# Altium footprint library MAX11192.PcbLib: 3 footprints
Each footprint in its own frame and in the unit in brackets; x right, y up, seen from the top. Pads: shape width x height; smd on the part's side, far side on the other; paste and mask are expansions set on the pad; w line width, h text height; cw(c..) or ccw(c..) is an arc to the next point about the centre after c.
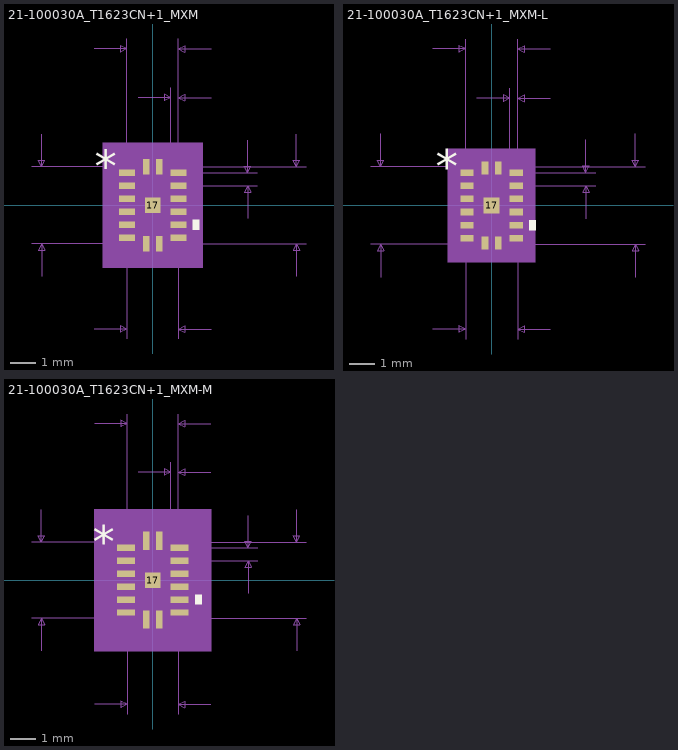
[diagram p0: the footprints below, top view; thin cyan lines are the x and y axes]

## 21-100030A_T1623CN+1_MXM [mil]
pads (17):
  rect 24x10 smd paste+0 mask+0: 1(-39.5,50) 2(-39.5,30) 3(-39.5,10) 4(-39.5,-10) 5(-39.5,-30) 6(-39.5,-50) 9(39.5,-50) 10(39.5,-30) 11(39.5,-10) 12(39.5,10) 13(39.5,30) 14(39.5,50)
  rect 10x24 smd paste+0 mask+0: 7(-10,-59) 8(10,-59) 15(10,59) 16(-10,59)
  rect 24x24 smd paste+0 mask+0: 17(0,0)
Top Overlay:
  region: 61.5,-22.5 71.5,-22.5 71.5,-37.5 61.5,-37.5
  text "*" at -89,35 h50
Mechanical 5:
  region: 76.5,-96 -76.5,-96 -76.5,96 76.5,96
Mechanical 7:
  lines w1: -185.5,-59 39.5,-59 ; -185.5,59 39.5,59 39.5,-205 ; -170.5,-109 -170.5,-59 ; -170.5,109 -170.5,59 ; -89.5,-190 -39.5,-190 ; -89.5,240 -39.5,240 ; -39.5,-205 -39.5,59 ; -39.5,50 -39.5,255 ; -22.5,165 27.5,165 ; 10,-59 235.5,-59 ; 10,59 235.5,59 ; 27.5,50 27.5,180 ; 39.5,30 160.5,30 ; 39.5,180 39.5,50 ; 39.5,255 39.5,50 ; 89.5,-190 39.5,-190 ; 89.5,165 39.5,165 ; 89.5,240 39.5,240 ; 145.5,-20 145.5,30 ; 145.5,100 145.5,50 ; 160.5,50 39.5,50 ; 220.5,-109 220.5,-59 ; 220.5,109 220.5,59 ; -170.5,-59 -175.5,-69 -165.5,-69 -170.5,-59 ; -170.5,59 -175.5,69 -165.5,69 -170.5,59 ; -39.5,-190 -49.5,-185 -49.5,-195 -39.5,-190 ; -39.5,240 -49.5,245 -49.5,235 -39.5,240 ; 27.5,165 17.5,170 17.5,160 27.5,165 ; 39.5,-190 49.5,-185 49.5,-195 39.5,-190 ; 39.5,165 49.5,170 49.5,160 39.5,165 ; 39.5,240 49.5,245 49.5,235 39.5,240 ; 145.5,30 140.5,20 150.5,20 145.5,30 ; 145.5,50 140.5,60 150.5,60 145.5,50 ; 220.5,-59 215.5,-69 225.5,-69 220.5,-59 ; 220.5,59 215.5,69 225.5,69 220.5,59
  text "Default Padstyle: RX10Y24D0T" at -350,-381 h50
  text "Heat Tab Padstyle: RX24Y24D0T" at -362.5,-441 h50
  text "Alt 1 Padstyle: OX60Y90D30P" at -337.5,-561 h50
  text "Alt 2 Padstyle: OX90Y60D30P" at -337.5,-621 h50
  text "0.02in/0.508mm" at 165.5,27.5 h25
  text "0.012in/0.305mm" at -60.25,185 h25
  text "0.079in/2.007mm" at -93.75,260 h25
  text "0.118in/2.997mm" at 240.5,-12.5 h25
  text "0.118in/2.997mm" at -378,-12.5 h25
  text "0.079in/2.007mm" at -93.75,-235 h25
Mechanical 13:
  lines w1: -39.5,9 10.5,59 ; -39.5,-59 39.5,-59 ; -39.5,-59 -39.5,59 ; -39.5,-59 -39.5,-59 ; -39.5,-56 -39.5,-44 ; -39.5,-56 -39.5,-44 ; -39.5,-56 -39.5,-56 ; -39.5,-44 -39.5,-44 ; -39.5,-36 -39.5,-24 ; -39.5,-36 -39.5,-24 ; -39.5,-36 -39.5,-36 ; -39.5,-24 -39.5,-24 ; -39.5,-16 -39.5,-4 ; -39.5,-16 -39.5,-4 ; -39.5,-16 -39.5,-16 ; -39.5,-4 -39.5,-4 ; -39.5,4 -39.5,16 ; -39.5,4 -39.5,16 ; -39.5,4 -39.5,4 ; -39.5,16 -39.5,16 ; -39.5,24 -39.5,36 ; -39.5,24 -39.5,36 ; -39.5,24 -39.5,24 ; -39.5,36 -39.5,36 ; -39.5,44 -39.5,56 ; -39.5,44 -39.5,56 ; -39.5,44 -39.5,44 ; -39.5,56 -39.5,56 ; -39.5,59 39.5,59 ; -39.5,59 -39.5,59 ; -16,-59 -4,-59 ; -16,-59 -16,-59 ; -16,-59 -4,-59 ; -16,59 -4,59 ; -16,59 -4,59 ; -16,59 -16,59 ; -4,-59 -4,-59 ; -4,59 -4,59 ; 4,-59 16,-59 ; 4,-59 4,-59 ; 4,-59 16,-59 ; 4,59 16,59 ; 4,59 16,59 ; 4,59 4,59 ; 16,-59 16,-59 ; 16,59 16,59 ; 39.5,-59 39.5,-59 ; 39.5,-59 39.5,59 ; 39.5,-56 39.5,-44 ; 39.5,-56 39.5,-56 ; 39.5,-56 39.5,-44 ; 39.5,-44 39.5,-44 ; 39.5,-36 39.5,-24 ; 39.5,-36 39.5,-36 ; 39.5,-36 39.5,-24 ; 39.5,-24 39.5,-24 ; 39.5,-16 39.5,-4 ; 39.5,-16 39.5,-16 ; 39.5,-16 39.5,-4 ; 39.5,-4 39.5,-4 ; 39.5,4 39.5,16 ; 39.5,4 39.5,4 ; 39.5,4 39.5,16 ; 39.5,16 39.5,16 ; 39.5,24 39.5,36 ; 39.5,24 39.5,24 ; 39.5,24 39.5,36 ; 39.5,36 39.5,36 ; 39.5,44 39.5,56 ; 39.5,44 39.5,44 ; 39.5,44 39.5,56 ; 39.5,56 39.5,56 ; 39.5,59 39.5,59
  text "*" at -40,35 h50
Mechanical 15:
  region: -25,-69 -49.5,-69 -49.5,-65 -61.5,-65 -61.5,65 -49.5,65 -49.5,69 -25,69 -25,81 25,81 25,69 49.5,69 49.5,65 61.5,65 61.5,-65 49.5,-65 49.5,-69 25,-69 25,-81 -25,-81
  lines w6: -61.5,-65 -49.5,-65 -49.5,-69 -25,-69 -25,-81 25,-81 25,-69 49.5,-69 49.5,-65 61.5,-65 61.5,65 49.5,65 49.5,69 25,69 25,81 -25,81 -25,69 -49.5,69 -49.5,65 -61.5,65 -61.5,-65
3D body: height 10, standoff 0, extent 0,0 10,10

## 21-100030A_T1623CN+1_MXM-L [mil]
pads (17):
  rect 20x10 smd paste+0 mask+0: 1(-37.5,50) 2(-37.5,30) 3(-37.5,10) 4(-37.5,-10) 5(-37.5,-30) 6(-37.5,-50) 9(37.5,-50) 10(37.5,-30) 11(37.5,-10) 12(37.5,10) 13(37.5,30) 14(37.5,50)
  rect 10x20 smd paste+0 mask+0: 7(-10,-57) 8(10,-57) 15(10,57) 16(-10,57)
  rect 24x24 smd paste+0 mask+0: 17(0,0)
Top Overlay:
  region: 57.5,-22.5 67.5,-22.5 67.5,-37.5 57.5,-37.5
  text "*" at -85,35 h50
Mechanical 5:
  region: 66.5,-86 -66.5,-86 -66.5,86 66.5,86
Mechanical 7:
  lines w1: -183.5,-59 39.5,-59 ; -183.5,59 39.5,59 39.5,-203 ; -168.5,-109 -168.5,-59 ; -168.5,109 -168.5,59 ; -89.5,-188 -39.5,-188 ; -89.5,238 -39.5,238 ; -39.5,-203 -39.5,59 ; -39.5,50 -39.5,253 ; -22.5,163 27.5,163 ; 10,-59 233.5,-59 ; 10,59 233.5,59 ; 27.5,50 27.5,178 ; 37.5,30 158.5,30 ; 37.5,50 158.5,50 ; 39.5,178 39.5,50 39.5,253 ; 89.5,-188 39.5,-188 ; 89.5,163 39.5,163 ; 89.5,238 39.5,238 ; 143.5,-20 143.5,30 ; 143.5,100 143.5,50 ; 218.5,-109 218.5,-59 ; 218.5,109 218.5,59 ; -168.5,-59 -173.5,-69 -163.5,-69 -168.5,-59 ; -168.5,59 -173.5,69 -163.5,69 -168.5,59 ; -39.5,-188 -49.5,-183 -49.5,-193 -39.5,-188 ; -39.5,238 -49.5,243 -49.5,233 -39.5,238 ; 27.5,163 17.5,168 17.5,158 27.5,163 ; 39.5,-188 49.5,-183 49.5,-193 39.5,-188 ; 39.5,163 49.5,168 49.5,158 39.5,163 ; 39.5,238 49.5,243 49.5,233 39.5,238 ; 143.5,30 138.5,20 148.5,20 143.5,30 ; 143.5,50 138.5,60 148.5,60 143.5,50 ; 218.5,-59 213.5,-69 223.5,-69 218.5,-59 ; 218.5,59 213.5,69 223.5,69 218.5,59
  text "Default Padstyle: RX10Y20D0T" at -350,-377 h50
  text "Heat Tab Padstyle: RX24Y24D0T" at -362.5,-437 h50
  text "Alt 1 Padstyle: OX60Y90D30P" at -337.5,-557 h50
  text "Alt 2 Padstyle: OX90Y60D30P" at -337.5,-617 h50
  text "0.02in/0.508mm" at 163.5,27.5 h25
  text "0.012in/0.305mm" at -60.25,183 h25
  text "0.079in/2.007mm" at -93.75,258 h25
  text "0.118in/2.997mm" at 238.5,-12.5 h25
  text "0.118in/2.997mm" at -376,-12.5 h25
  text "0.079in/2.007mm" at -93.75,-233 h25
Mechanical 13:
  lines w1: -39.5,9 10.5,59 ; -39.5,-59 39.5,-59 ; -39.5,-59 -39.5,59 ; -39.5,-59 -39.5,-59 ; -39.5,-56 -39.5,-44 ; -39.5,-56 -39.5,-44 ; -39.5,-56 -39.5,-56 ; -39.5,-44 -39.5,-44 ; -39.5,-36 -39.5,-24 ; -39.5,-36 -39.5,-24 ; -39.5,-36 -39.5,-36 ; -39.5,-24 -39.5,-24 ; -39.5,-16 -39.5,-4 ; -39.5,-16 -39.5,-4 ; -39.5,-16 -39.5,-16 ; -39.5,-4 -39.5,-4 ; -39.5,4 -39.5,16 ; -39.5,4 -39.5,16 ; -39.5,4 -39.5,4 ; -39.5,16 -39.5,16 ; -39.5,24 -39.5,36 ; -39.5,24 -39.5,36 ; -39.5,24 -39.5,24 ; -39.5,36 -39.5,36 ; -39.5,44 -39.5,56 ; -39.5,44 -39.5,56 ; -39.5,44 -39.5,44 ; -39.5,56 -39.5,56 ; -39.5,59 39.5,59 ; -39.5,59 -39.5,59 ; -16,-59 -4,-59 ; -16,-59 -16,-59 ; -16,-59 -4,-59 ; -16,59 -4,59 ; -16,59 -4,59 ; -16,59 -16,59 ; -4,-59 -4,-59 ; -4,59 -4,59 ; 4,-59 16,-59 ; 4,-59 4,-59 ; 4,-59 16,-59 ; 4,59 16,59 ; 4,59 16,59 ; 4,59 4,59 ; 16,-59 16,-59 ; 16,59 16,59 ; 39.5,-59 39.5,-59 ; 39.5,-59 39.5,59 ; 39.5,-56 39.5,-44 ; 39.5,-56 39.5,-56 ; 39.5,-56 39.5,-44 ; 39.5,-44 39.5,-44 ; 39.5,-36 39.5,-24 ; 39.5,-36 39.5,-36 ; 39.5,-36 39.5,-24 ; 39.5,-24 39.5,-24 ; 39.5,-16 39.5,-4 ; 39.5,-16 39.5,-16 ; 39.5,-16 39.5,-4 ; 39.5,-4 39.5,-4 ; 39.5,4 39.5,16 ; 39.5,4 39.5,4 ; 39.5,4 39.5,16 ; 39.5,16 39.5,16 ; 39.5,24 39.5,36 ; 39.5,24 39.5,24 ; 39.5,24 39.5,36 ; 39.5,36 39.5,36 ; 39.5,44 39.5,56 ; 39.5,44 39.5,44 ; 39.5,44 39.5,56 ; 39.5,56 39.5,56 ; 39.5,59 39.5,59
  text "*" at -40,35 h50
Mechanical 15:
  region: -19,-63 -43.5,-63 -43.5,-59 -51.5,-59 -51.5,59 -43.5,59 -43.5,63 -19,63 -19,71 19,71 19,63 43.5,63 43.5,59 51.5,59 51.5,-59 43.5,-59 43.5,-63 19,-63 19,-71 -19,-71
  lines w6: -51.5,-59 -43.5,-59 -43.5,-63 -19,-63 -19,-71 19,-71 19,-63 43.5,-63 43.5,-59 51.5,-59 51.5,59 43.5,59 43.5,63 19,63 19,71 -19,71 -19,63 -43.5,63 -43.5,59 -51.5,59 -51.5,-59
3D body: height 10, standoff 0, extent 0,0 10,10

## 21-100030A_T1623CN+1_MXM-M [mil]
pads (17):
  rect 28x10 smd paste+0 mask+0: 1(-41.5,50) 2(-41.5,30) 3(-41.5,10) 4(-41.5,-10) 5(-41.5,-30) 6(-41.5,-50) 9(41.5,-50) 10(41.5,-30) 11(41.5,-10) 12(41.5,10) 13(41.5,30) 14(41.5,50)
  rect 10x28 smd paste+0 mask+0: 7(-10,-61) 8(10,-61) 15(10,61) 16(-10,61)
  rect 24x24 smd paste+0 mask+0: 17(0,0)
Top Overlay:
  region: 65.5,-22.5 75.5,-22.5 75.5,-37.5 65.5,-37.5
  text "*" at -93,35 h50
Mechanical 5:
  region: 90.5,-110 -90.5,-110 -90.5,110 90.5,110
Mechanical 7:
  lines w1: -187.5,-59 39.5,-59 ; -187.5,59 39.5,59 39.5,-207 ; -172.5,-109 -172.5,-59 ; -172.5,109 -172.5,59 ; -89.5,-192 -39.5,-192 ; -89.5,242 -39.5,242 ; -39.5,-207 -39.5,59 ; -39.5,50 -39.5,257 ; -22.5,167 27.5,167 ; 10,-59 237.5,-59 ; 10,59 237.5,59 ; 27.5,50 27.5,182 ; 39.5,182 39.5,50 39.5,257 ; 41.5,30 162.5,30 ; 41.5,50 162.5,50 ; 89.5,-192 39.5,-192 ; 89.5,167 39.5,167 ; 89.5,242 39.5,242 ; 147.5,-20 147.5,30 ; 147.5,100 147.5,50 ; 222.5,-109 222.5,-59 ; 222.5,109 222.5,59 ; -172.5,-59 -177.5,-69 -167.5,-69 -172.5,-59 ; -172.5,59 -177.5,69 -167.5,69 -172.5,59 ; -39.5,-192 -49.5,-187 -49.5,-197 -39.5,-192 ; -39.5,242 -49.5,247 -49.5,237 -39.5,242 ; 27.5,167 17.5,172 17.5,162 27.5,167 ; 39.5,-192 49.5,-187 49.5,-197 39.5,-192 ; 39.5,167 49.5,172 49.5,162 39.5,167 ; 39.5,242 49.5,247 49.5,237 39.5,242 ; 147.5,30 142.5,20 152.5,20 147.5,30 ; 147.5,50 142.5,60 152.5,60 147.5,50 ; 222.5,-59 217.5,-69 227.5,-69 222.5,-59 ; 222.5,59 217.5,69 227.5,69 222.5,59
  text "Default Padstyle: RX10Y28D0T" at -350,-385 h50
  text "Heat Tab Padstyle: RX24Y24D0T" at -362.5,-445 h50
  text "Alt 1 Padstyle: OX60Y90D30P" at -337.5,-565 h50
  text "Alt 2 Padstyle: OX90Y60D30P" at -337.5,-625 h50
  text "0.02in/0.508mm" at 167.5,27.5 h25
  text "0.012in/0.305mm" at -60.25,187 h25
  text "0.079in/2.007mm" at -93.75,262 h25
  text "0.118in/2.997mm" at 242.5,-12.5 h25
  text "0.118in/2.997mm" at -380,-12.5 h25
  text "0.079in/2.007mm" at -93.75,-237 h25
Mechanical 13:
  lines w1: -39.5,9 10.5,59 ; -39.5,-59 39.5,-59 ; -39.5,-59 -39.5,59 ; -39.5,-59 -39.5,-59 ; -39.5,-56 -39.5,-44 ; -39.5,-56 -39.5,-44 ; -39.5,-56 -39.5,-56 ; -39.5,-44 -39.5,-44 ; -39.5,-36 -39.5,-24 ; -39.5,-36 -39.5,-24 ; -39.5,-36 -39.5,-36 ; -39.5,-24 -39.5,-24 ; -39.5,-16 -39.5,-4 ; -39.5,-16 -39.5,-4 ; -39.5,-16 -39.5,-16 ; -39.5,-4 -39.5,-4 ; -39.5,4 -39.5,16 ; -39.5,4 -39.5,16 ; -39.5,4 -39.5,4 ; -39.5,16 -39.5,16 ; -39.5,24 -39.5,36 ; -39.5,24 -39.5,36 ; -39.5,24 -39.5,24 ; -39.5,36 -39.5,36 ; -39.5,44 -39.5,56 ; -39.5,44 -39.5,56 ; -39.5,44 -39.5,44 ; -39.5,56 -39.5,56 ; -39.5,59 39.5,59 ; -39.5,59 -39.5,59 ; -16,-59 -4,-59 ; -16,-59 -16,-59 ; -16,-59 -4,-59 ; -16,59 -4,59 ; -16,59 -4,59 ; -16,59 -16,59 ; -4,-59 -4,-59 ; -4,59 -4,59 ; 4,-59 16,-59 ; 4,-59 4,-59 ; 4,-59 16,-59 ; 4,59 16,59 ; 4,59 16,59 ; 4,59 4,59 ; 16,-59 16,-59 ; 16,59 16,59 ; 39.5,-59 39.5,-59 ; 39.5,-59 39.5,59 ; 39.5,-56 39.5,-44 ; 39.5,-56 39.5,-56 ; 39.5,-56 39.5,-44 ; 39.5,-44 39.5,-44 ; 39.5,-36 39.5,-24 ; 39.5,-36 39.5,-36 ; 39.5,-36 39.5,-24 ; 39.5,-24 39.5,-24 ; 39.5,-16 39.5,-4 ; 39.5,-16 39.5,-16 ; 39.5,-16 39.5,-4 ; 39.5,-4 39.5,-4 ; 39.5,4 39.5,16 ; 39.5,4 39.5,4 ; 39.5,4 39.5,16 ; 39.5,16 39.5,16 ; 39.5,24 39.5,36 ; 39.5,24 39.5,24 ; 39.5,24 39.5,36 ; 39.5,36 39.5,36 ; 39.5,44 39.5,56 ; 39.5,44 39.5,44 ; 39.5,44 39.5,56 ; 39.5,56 39.5,56 ; 39.5,59 39.5,59
  text "*" at -40,35 h50
Mechanical 15:
  region: -35,-79 -59.5,-79 -59.5,-75 -75.5,-75 -75.5,75 -59.5,75 -59.5,79 -35,79 -35,95 35,95 35,79 59.5,79 59.5,75 75.5,75 75.5,-75 59.5,-75 59.5,-79 35,-79 35,-95 -35,-95
  lines w6: -75.5,-75 -59.5,-75 -59.5,-79 -35,-79 -35,-95 35,-95 35,-79 59.5,-79 59.5,-75 75.5,-75 75.5,75 59.5,75 59.5,79 35,79 35,95 -35,95 -35,79 -59.5,79 -59.5,75 -75.5,75 -75.5,-75
3D body: height 10, standoff 0, extent 0,0 10,10